# EAGLE library part PCF8563 (library IntegratedLib)
RTC i2C 3v3 (SOIC-8)
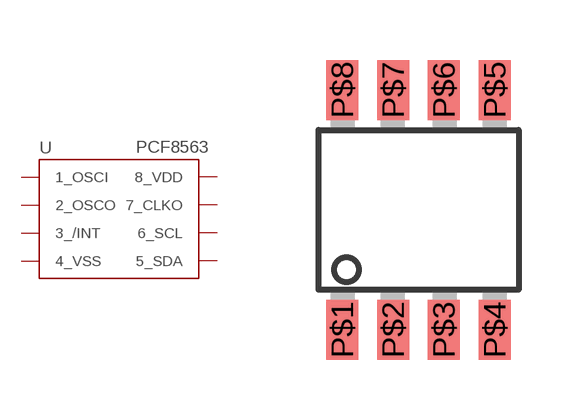
[diagram p9: symbol with the pads of SOIC-8; footprint SOIC-8]

Designator prefix U

## PCF8563 (FABRICANTE: NXP; PARTNUMBER: PCF8563T; TIPO: CIRCUITO INTEGRADO)  [SOIC-8]
P$1  1_OSCI
P$2  2_OSCO
P$3  3_/INT
P$4  4_VSS
P$5  5_SDA
P$6  6_SCL
P$7  7_CLKO
P$8  8_VDD

## Footprint SOIC-8 (pad centres in mm)
smd 0.8 x 1.5: P$1 -1.905,-3; P$2 -0.635,-3; P$3 0.635,-3; P$4 1.905,-3; P$5 1.905,3; P$6 0.635,3; P$7 -0.635,3; P$8 -1.905,3